# EAGLE library part DG403-2-J (library joakim)
Two SPDT switches
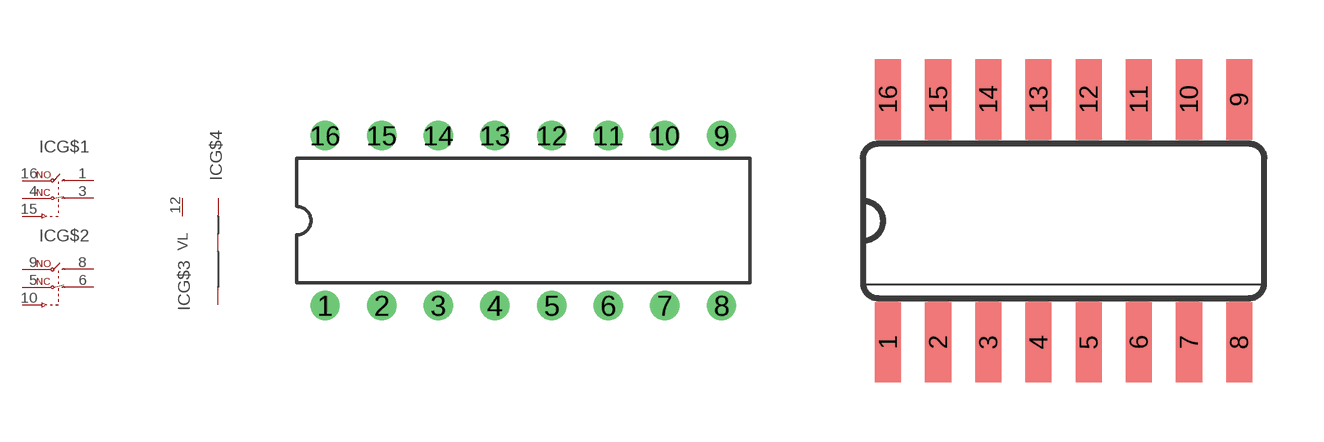
[diagram p66: symbol with the pads of DIL16J; footprints DIL16J, SO16J]

Designator prefix IC; gates G$1=DG-CELL-O-C G$2=DG-CELL-O-C G$3=VL-PWR G$4=XM8-PWR

## DG403-2-JJ  [DIL16J]
1  G$1:D_A
3  G$1:D_B
4  G$1:S_B
5  G$2:S_B
6  G$2:D_B
8  G$2:D_A
9  G$2:S_A
10  G$2:C
11  G$4:+15V  pwr
12  G$3:VL
13  G$4:AGND  pwr
14  G$4:-15V  pwr
15  G$1:C
16  G$1:S_A

## DG403-2-JY  [SO16J]
Pads as for DIL16J

## Footprint DIL16J (pad centres in mm)
Dual In Line 16
drill 0.813: 1 -8.89,-3.81; 2 -6.35,-3.81; 3 -3.81,-3.81; 4 -1.27,-3.81; 5 1.27,-3.81; 6 3.81,-3.81; 7 6.35,-3.81; 8 8.89,-3.81; 9 8.89,3.81; 10 6.35,3.81; 11 3.81,3.81; 12 1.27,3.81; 13 -1.27,3.81; 14 -3.81,3.81; 15 -6.35,3.81; 16 -8.89,3.81

## Footprint SO16J (pad centres in mm)
Small Outline Package 16
smd 0.66 x 2.032: 1 -4.445,-3.073; 2 -3.175,-3.073; 3 -1.905,-3.073; 4 -0.635,-3.073; 5 0.635,-3.073; 6 1.905,-3.073; 7 3.175,-3.073; 8 4.445,-3.073; 9 4.445,3.073; 10 3.175,3.073; 11 1.905,3.073; 12 0.635,3.073; 13 -0.635,3.073; 14 -1.905,3.073; 15 -3.175,3.073; 16 -4.445,3.073